# Altium schematic symbol library PCA9420BSAZ.SchLib: 1 symbol
Pins are listed as number, name and electrical type; pins without a type are passive.

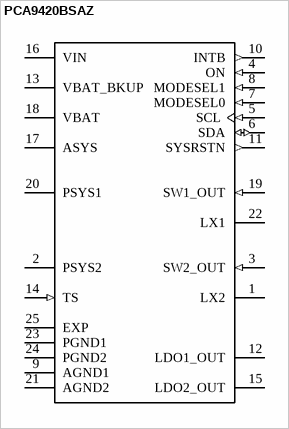
[diagram p0: symbol PCA9420BSAZ]

## PCA9420BSAZ
designator ?
Power Management IC for Low-Power Microcontroller Applications 24-Pin HVQFN
pins: 1 LX2 (power), 2 PSYS2 (power), 3 SW2_OUT (in), 4 ON (in), 5 SCL (in), 6 SDA (io), 7 MODESEL0 (in), 8 MODESEL1 (in), 9 AGND1 (power), 10 INTB (out), 11 SYSRSTN (out), 12 LDO1_OUT (power), 13 VBAT_BKUP (power), 14 TS (in), 15 LDO2_OUT (power), 16 VIN (power), 17 ASYS (power), 18 VBAT (power), 19 SW1_OUT (in), 20 PSYS1 (power), 21 AGND2 (power), 22 LX1 (power), 23 PGND1 (power), 24 PGND2 (power), 25 EXP (power)